# EAGLE library part TUBEFLY (library wheat)
Flyback xfmr for tube ps ETD39
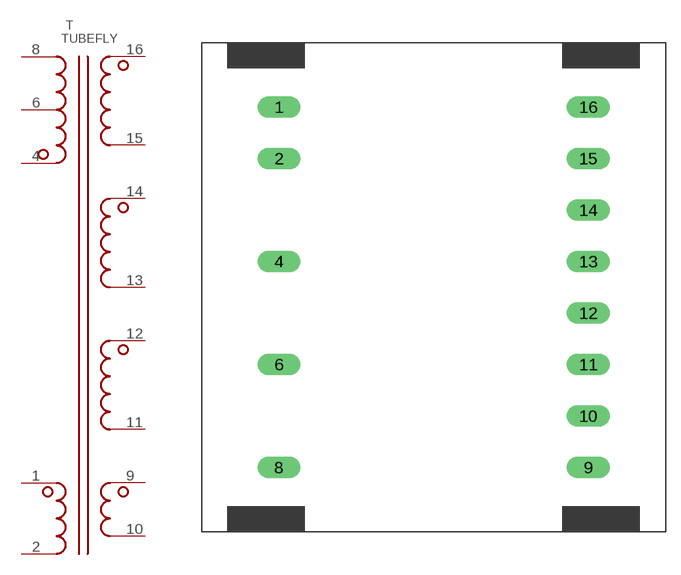
[diagram p73: symbol with the pads of ETD39_NP357; footprint ETD39_NP357]

Designator prefix T

## TUBEFLY  [ETD39_NP357]
1  BIASP  pas
2  BIASN  pas
4  FLY  pas
6  CT  pas
8  VP  pas
9  FILP  pas
10  FILN  pas
11  HV3N  pas
12  HV3P  pas
13  HV2N  pas
14  HV2P  pas
15  HV1N  pas
16  HV1P  pas

## Footprint ETD39_NP357 (pad centres in mm)
ETD39, 16 pin bobbin minus pins 3,5,7
drill 1.422 long: 1 0,0; 2 0,-5.08; 4 0,-15.24; 6 0,-25.4; 8 0,-35.56; 9 30.48,-35.56; 10 30.48,-30.48; 11 30.48,-25.4; 12 30.48,-20.32; 13 30.48,-15.24; 14 30.48,-10.16; 15 30.48,-5.08; 16 30.48,0